# Altium schematic symbol library SchlibCommunication.SchLib: 2 symbols
Pins are listed as number, name and electrical type; pins without a type are passive.

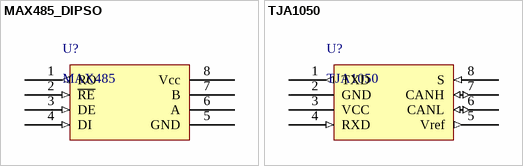
[diagram p0: symbols MAX485_DIPSO to TJA1050]

## MAX485_DIPSO
designator U?, comment MAX485
RS485/RS422 Transceiver
pins: 1 RO (out), 2 ~{RE} (in), 3 DE (in), 4 DI (in), 5 GND (power), 6 A, 7 B, 8 Vcc (power)

## TJA1050
designator U?
High speed CAN transceiver
footprint Model Name (Footprint not found)
pins: 1 TXD (out), 2 GND (power), 3 VCC (power), 4 RXD (in), 5 Vref (out), 6 CANL (io), 7 CANH (io), 8 S (in)